# Altium schematic symbol library 2222SQ-161JEC.SchLib: 1 symbol
Pins are listed as number, name and electrical type; pins without a type are passive.

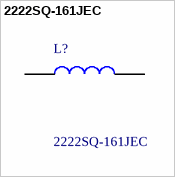
[diagram p0: symbol 2222SQ-161JEC]

## 2222SQ-161JEC
designator L?
Fixed Inductors 2222 160nH Unshld 5% 5.7A 8.25mOhms; Manufacturer_Name: COILCRAFT; Geometry.Height: 5.944mm; Mouser Part Number: 994-2222SQ-161JEC; Mouser Price/Stock: https://www.mouser.co.uk/ProductDetail/Coilcraft/2222SQ-161JEC?qs=zCSbvcPd3pbFJZdDO62HWA%3D%3D; Manufacturer_Part_Number: 2222SQ-161JEC; Datasheet Link: https://www.mouser.ph/ProductDetail/Coilcraft/2222SQ-161JEC?qs=zCSbvcPd3pbFJZdDO62HWA%3D%3D
footprint 2222SQ161JEC
pins: 1, 2